# EAGLE library part 74HCT251PW,118 (library SamacSys_Parts)
vp_74HC_HCT251.ditamap - 8-input multiplexer; 3-state@en-us Source: Datasheet <https://assets.nexperia.com/documents/data-sheet/74HC_HCT251.pdf>
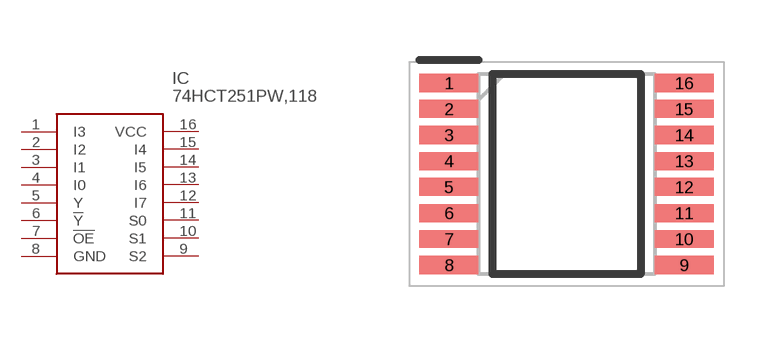
[diagram p48: symbol with the pads of SOP65P640X110-16N; footprint SOP65P640X110-16N]

Designator prefix IC

## 74HCT251PW,118 (DESCRIPTION: vp_74HC_HCT251.ditamap - 8-input multiplexer; 3-state@en-us; HEIGHT: 1.1mm; MANUFACTURER_NAME: Nexperia; MANUFACTURER_PART_NUMBER: 74HCT251PW,118; MOUSER_PART_NUMBER: 771-HCT251PW118; MOUSER_PRICE-STOCK: https://www.mouser.co.uk/ProductDetail/Nexperia/74HCT251PW118/?qs=P62ublwmbi%2FbRMvt745xKw%3D%3D)  [SOP65P640X110-16N]
1  I3
2  I2
3  I1
4  I0
5  Y
6  !Y
7  !OE
8  GND
9  S2
10  S1
11  S0
12  I7
13  I6
14  I5
15  I4
16  VCC

## Footprint SOP65P640X110-16N (pad centres in mm)
SOT403-1
smd 1.475 x 0.45: 1 -2.938,2.275; 2 -2.938,1.625; 3 -2.938,0.975; 4 -2.938,0.325; 5 -2.938,-0.325; 6 -2.938,-0.975; 7 -2.938,-1.625; 8 -2.938,-2.275; 9 2.938,-2.275; 10 2.938,-1.625; 11 2.938,-0.975; 12 2.938,-0.325; 13 2.938,0.325; 14 2.938,0.975; 15 2.938,1.625; 16 2.938,2.275